# Altium footprint library DDS1.PcbLib: 136 footprints (part 4 of 9)
Each footprint in its own frame and in the unit in brackets; x right, y up, seen from the top. Pads: shape width x height; smd on the part's side, far side on the other; paste and mask are expansions set on the pad; w line width, h text height; cw(c..) or ccw(c..) is an arc to the next point about the centre after c.
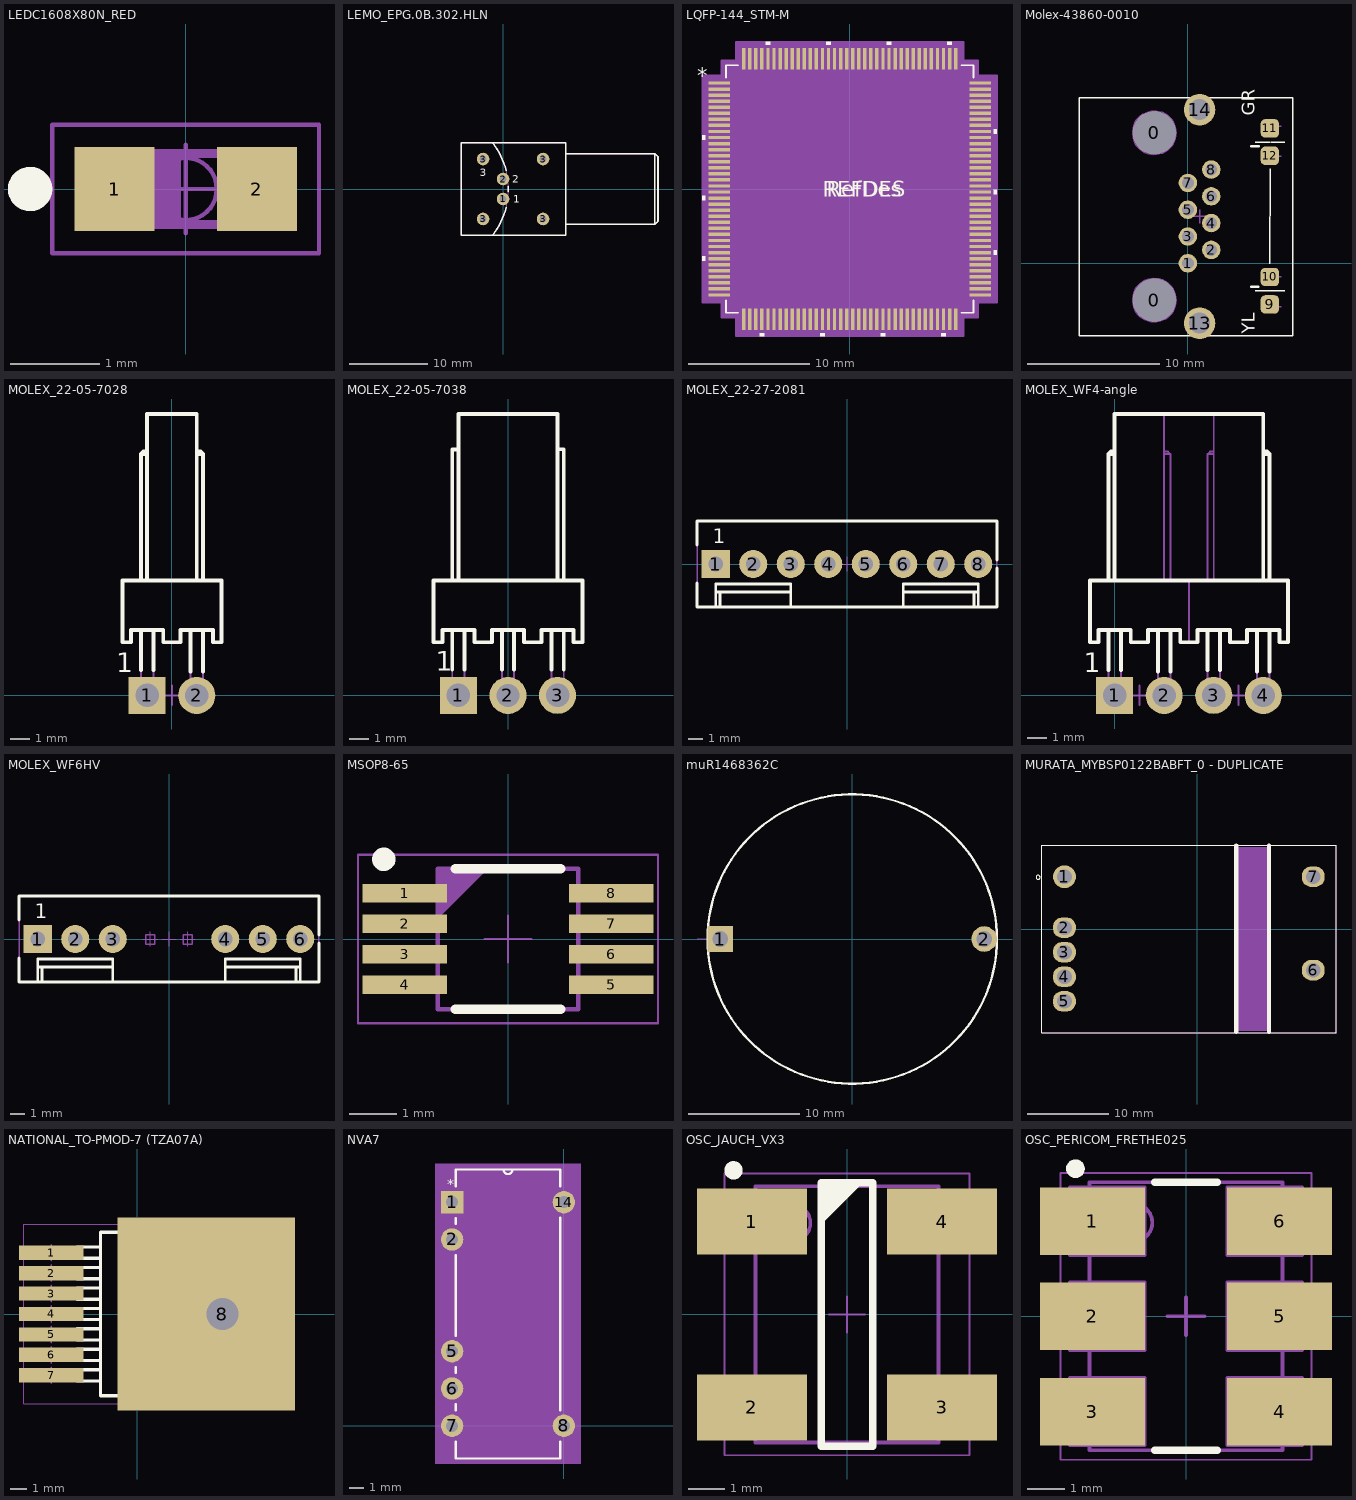
[diagram p3: the footprints below, top view; thin cyan lines are the x and y axes]

## LEDC1608X80N_RED [mm] "Chip RED LED, 2-Leads, Body 1.6x0.8mm, IPC Medium Density"
height 0.8
pads (2):
  rect 0.9x0.95 smd: 1(-0.8,0) 2(0.8,0)
Top Overlay:
  circle w0.25: c-1.75,0 r0.125
Mechanical 14:
  lines w0.1: -0.7,-0.4 -0.7,0.4 ; -0.6,-0.4 -0.6,0.4 ; -0.5,-0.4 -0.5,0.4 ; -0.4,-0.4 -0.4,0.4 ; -0.3,-0.4 -0.3,0.4 ; -0.2,-0.4 -0.2,0.4 ; -0.1,-0.4 -0.1,0.4 ; -0.8,-0.4 -0.8,0.4 0.8,0.4 0.8,-0.4 -0.8,-0.4
Mechanical 15:
  circle w0.05: c0,0 r0.35
  lines w0.05: -0.5,0 0.5,0 ; 0,-0.5 0,0.5 ; -1.5,-0.725 -1.5,0.725 1.5,0.725 1.5,-0.725 -1.5,-0.725
3D body "LEDC1608X80N_RED.stp": height 0.8, standoff 0, extent -0.8,-0.4 0.8,0.4

## LEMO_EPG.0B.302.HLN [mm] "Elbow Receptacle (90°) With 2 Female Contacts and Key (G) For PCB"
height 12.7
pads (6):
  round 1.6 hole 0.9: 1(0,-1.27) 2(0,1.27) 3(-2.54,-3.81) 3(-2.54,3.81) 3(5.08,-3.81) 3(5.08,3.81)
Top Overlay:
  lines w0.2: -1.32,-5.85 ccw(c-8.876,0) 0.386,-2.353 ; -1.32,5.85 cw(c-8.876,0) 0.386,2.353 ; 0.674,-0.338 ccw(c-8.876,0) 0.674,0.338 ; 7.98,-4.5 19.28,-4.5 ; 7.98,4.5 19.28,4.5 ; 19.28,-4.5 19.28,4.5 ; 19.28,-4.5 19.68,-4.1 19.68,4.1 19.28,4.5 ; -5.32,-5.85 7.98,-5.85 7.98,5.85 -5.32,5.85 -5.32,-5.85
  text "1" at 1.275,-1.75 h0.97
  text "2" at 1.186,0.787 h0.97
  text "3" at -2.975,1.625 h0.97
Mechanical 14:
  circle w0.1: c-2.54,3.81 r0.4
  circle w0.1: c5.08,3.81 r0.4
  circle w0.1: c5.08,-3.81 r0.4
  circle w0.1: c-2.54,-3.81 r0.4
  circle w0.1: c0,-1.27 r0.4
  circle w0.1: c0,1.27 r0.4
  lines w0.1: -1.32,-5.85 ccw(c-8.876,0) -1.32,5.85 ; 7.98,-4.5 19.28,-4.5 ; 7.98,4.5 19.28,4.5 ; 19.28,-4.5 19.28,4.5 ; 19.28,-4.5 19.68,-4.1 19.68,4.1 19.28,4.5 ; -5.32,-5.85 7.98,-5.85 7.98,5.85 -5.32,5.85 -5.32,-5.85
  text "1" at 1.275,-1.75 h0.97
  text "2" at 1.186,0.787 h0.97
  text "3" at -2.975,1.625 h0.97
3D body "LEMO_EPG.0B.302.HLN.stp": height 12.7, standoff -4, extent -5.32,-5.85 19.68,5.85

## LQFP-144_STM-M [mil]
pads (144):
  rect 70x11 smd paste+0 mask+0: 1(-424,344.49) 2(-424,324.8) 3(-424,305.12) 4(-424,285.43) 5(-424,265.75) 6(-424,246.06) 7(-424,226.38) 8(-424,206.69) 9(-424,187.01) 10(-424,167.32) 11(-424,147.64) 12(-424,127.95) 13(-424,108.27) 14(-424,88.58) 15(-424,68.9) 16(-424,49.21) 17(-424,29.53) 18(-424,9.84) 19(-424,-9.84) 20(-424,-29.53) 21(-424,-49.21) 22(-424,-68.9) 23(-424,-88.58) 24(-424,-108.27) 25(-424,-127.95) 26(-424,-147.64) 27(-424,-167.32) 28(-424,-187.01) 29(-424,-206.69) 30(-424,-226.38) 31(-424,-246.06) 32(-424,-265.75) 33(-424,-285.43) 34(-424,-305.12) 35(-424,-324.8) 36(-424,-344.49) 73(424,-344.49) 74(424,-324.8) 75(424,-305.12) 76(424,-285.43) 77(424,-265.75) 78(424,-246.06) 79(424,-226.38) 80(424,-206.69) 81(424,-187.01) 82(424,-167.32) 83(424,-147.64) 84(424,-127.95) 85(424,-108.27) 86(424,-88.58) 87(424,-68.9) 88(424,-49.21) 89(424,-29.53) 90(424,-9.84) 91(424,9.84) 92(424,29.53) 93(424,49.21) 94(424,68.9) 95(424,88.58) 96(424,108.27) 97(424,127.95) 98(424,147.64) 99(424,167.32) 100(424,187.01) 101(424,206.69) 102(424,226.38) 103(424,246.06) 104(424,265.75) 105(424,285.43) 106(424,305.12) 107(424,324.8) 108(424,344.49)
  rect 11x70 smd paste+0 mask+0: 37(-344.49,-424) 38(-324.8,-424) 39(-305.12,-424) 40(-285.43,-424) 41(-265.75,-424) 42(-246.06,-424) 43(-226.38,-424) 44(-206.69,-424) 45(-187.01,-424) 46(-167.32,-424) 47(-147.64,-424) 48(-127.95,-424) 49(-108.27,-424) 50(-88.58,-424) 51(-68.9,-424) 52(-49.21,-424) 53(-29.53,-424) 54(-9.84,-424) 55(9.84,-424) 56(29.53,-424) 57(49.21,-424) 58(68.9,-424) 59(88.58,-424) 60(108.27,-424) 61(127.95,-424) 62(147.64,-424) 63(167.32,-424) 64(187.01,-424) 65(206.69,-424) 66(226.38,-424) 67(246.06,-424) 68(265.75,-424) 69(285.43,-424) 70(305.12,-424) 71(324.8,-424) 72(344.49,-424) 109(344.49,424) 110(324.8,424) 111(305.12,424) 112(285.43,424) 113(265.75,424) 114(246.06,424) 115(226.38,424) 116(206.69,424) 117(187.01,424) 118(167.32,424) 119(147.64,424) 120(127.95,424) 121(108.27,424) 122(88.58,424) 123(68.9,424) 124(49.21,424) 125(29.53,424) 126(9.84,424) 127(-9.84,424) 128(-29.53,424) 129(-49.21,424) 130(-68.9,424) 131(-88.58,424) 132(-108.27,424) 133(-127.95,424) 134(-147.64,424) 135(-167.32,424) 136(-187.01,424) 137(-206.69,424) 138(-226.38,424) 139(-246.06,424) 140(-265.75,424) 141(-285.43,424) 142(-305.12,424) 143(-324.8,424) 144(-344.49,424)
Top Overlay:
  region: -469,174.82 -479,174.82 -479,159.82 -469,159.82
  region: -469,-22.03 -479,-22.03 -479,-37.03 -469,-37.03
  region: -469,-218.88 -479,-218.88 -479,-233.88 -469,-233.88
  region: -277.93,-469 -292.93,-469 -292.93,-479 -277.93,-479
  region: -81.08,-469 -96.08,-469 -96.08,-479 -81.08,-479
  region: 115.77,-469 100.77,-469 100.77,-479 115.77,-479
  region: 312.62,-469 297.62,-469 297.62,-479 312.62,-479
  region: 469,-199.19 479,-199.19 479,-214.19 469,-214.19
  region: 469,-2.34 479,-2.34 479,-17.34 469,-17.34
  region: 469,194.51 479,194.51 479,179.51 469,179.51
  region: 332.3,469 317.3,469 317.3,479 332.3,479
  region: 135.45,469 120.45,469 120.45,479 135.45,479
  region: -61.4,469 -76.4,469 -76.4,479 -61.4,479
  region: -258.25,469 -273.25,469 -273.25,479 -258.25,479
  lines w6: -402.5,-363.09 -402.5,-402.5 -363.09,-402.5 ; -402.5,363.09 -402.5,402.5 -363.09,402.5 ; 363.09,-402.5 402.5,-402.5 402.5,-363.09 ; 363.09,402.5 402.5,402.5 402.5,363.09
  text "*" at -496.5,344.33 h50
  text "RefDes" at -75,-25 h50
  text "REFDES" at -87.5,-25 h50
Mechanical 13:
  drawing of 581 lines, arcs and shapes, not listed
  text "*" at -395,329.33 h50
  text "RefDes2" at -87.5,-25 h50
Mechanical 15:
  region: -369.99,-417.5 -417.5,-417.5 -417.5,-369.99 -479,-369.99 -479,369.99 -417.5,369.99 -417.5,417.5 -369.99,417.5 -369.99,479 369.99,479 369.99,417.5 417.5,417.5 417.5,369.99 479,369.99 479,-369.99 417.5,-369.99 417.5,-417.5 369.99,-417.5 369.99,-479 -369.99,-479
  lines w6: -479,-369.99 -417.5,-369.99 -417.5,-417.5 -369.99,-417.5 -369.99,-479 369.99,-479 369.99,-417.5 417.5,-417.5 417.5,-369.99 479,-369.99 479,369.99 417.5,369.99 417.5,417.5 369.99,417.5 369.99,479 -369.99,479 -369.99,417.5 -417.5,417.5 -417.5,369.99 -479,369.99 -479,-369.99
3D body "LQFP-144_STM.step": height 63.11, standoff 0, extent -437.01,-437.01 437.01,437.01

## Molex-43860-0010 [mm] "1 Port, 8 Positions, CAT5 RJ45 Modular Connector With Yellow And Green LEDs"
height 13.46
pads (16):
  round 3.25 hole 3.25 unplated: 0(-2.54,-2.794) 0(-2.54,9.906)
  round 1.4 hole 0.9: 1(0,0) 2(1.778,1.016) 3(0,2.032) 4(1.778,3.048) 5(0,4.064) 6(1.778,5.08) 7(0,6.096) 8(1.778,7.112)
  rrect50% 1.4x1.4 smd: 9(6.223,-3.124) 10(6.223,-1.041) 11(6.223,10.236) 12(6.223,8.153)
  round 2.4 hole 1.6: 13(0.889,-4.547) 14(0.889,11.659)
Top Overlay:
  lines w0.1: 5.121,-2.083 6.223,-2.083 7.346,-2.083 ; 5.121,9.195 6.223,9.195 ; 6.21,-0.031 6.26,7.181 ; 6.287,9.195 7.346,9.195 ; -8.224,-5.499 -8.224,12.562 7.943,12.562 7.943,-5.499 -8.224,-5.499
  lines w0.2: 4.826,-1.778 5.351,-1.778 ; 4.826,8.89 5.376,8.89
  text "YL" at 5.08,-5.334 h1
  text "GR" at 5.08,11.176 h1
Mechanical 8:
  circle w0.1: c0,6.096 r0.45
  circle w0.1: c0,4.064 r0.45
  circle w0.1: c0,2.032 r0.45
  circle w0.1: c0,0 r0.45
  circle w0.1: c1.78,1.016 r0.45
  circle w0.1: c1.78,3.048 r0.45
  circle w0.1: c1.78,5.08 r0.45
  circle w0.1: c1.78,7.112 r0.45
  circle w0.1: c0.89,-4.578 r0.8
  circle w0.1: c0.89,11.682 r0.8
  circle w0.1: c-2.54,-2.798 r1.65
  circle w0.1: c-2.54,9.902 r1.65
  lines w0.1: -3.04,-2.798 -2.54,-2.798 ; -3.04,9.902 -2.54,9.902 ; -2.54,-3.298 -2.54,-2.798 ; -2.54,-2.298 -2.54,-2.798 ; -2.54,9.402 -2.54,9.902 ; -2.54,10.402 -2.54,9.902 ; -2.04,-2.798 -2.54,-2.798 ; -2.04,9.902 -2.54,9.902 ; -0.5,0 0,0 ; -0.5,2.032 0,2.032 ; -0.5,4.064 0,4.064 ; -0.5,6.096 0,6.096 ; 0,-0.5 0,0 ; 0,0.5 0,0 ; 0,1.532 0,2.032 ; 0,2.532 0,2.032 ; 0,3.564 0,4.064 ; 0,4.564 0,4.064 ; 0,5.596 0,6.096 ; 0,6.596 0,6.096 ; 0.386,3.554 0.886,3.554 ; 0.39,-4.578 0.89,-4.578 ; 0.39,11.682 0.89,11.682 ; 0.5,0 0,0 ; 0.5,2.032 0,2.032 ; 0.5,4.064 0,4.064 ; 0.5,6.096 0,6.096 ; 0.886,3.054 0.886,3.554 ; 0.886,4.054 0.886,3.554 ; 0.89,-5.078 0.89,-4.578 ; 0.89,-4.078 0.89,-4.578 ; 0.89,11.182 0.89,11.682 ; 0.89,12.182 0.89,11.682 ; 1.28,1.016 1.78,1.016 ; 1.28,3.048 1.78,3.048 ; 1.28,5.08 1.78,5.08 ; 1.28,7.112 1.78,7.112 ; 1.386,3.554 0.886,3.554 ; 1.39,-4.578 0.89,-4.578 ; 1.39,11.682 0.89,11.682 ; 1.78,0.516 1.78,1.016 ; 1.78,1.516 1.78,1.016 ; 1.78,2.548 1.78,3.048 ; 1.78,3.548 1.78,3.048 ; 1.78,4.58 1.78,5.08 ; 1.78,5.58 1.78,5.08 ; 1.78,6.612 1.78,7.112 ; 1.78,7.612 1.78,7.112 ; 2.28,1.016 1.78,1.016 ; 2.28,3.048 1.78,3.048 ; 2.28,5.08 1.78,5.08 ; 2.28,7.112 1.78,7.112 ; 6.1,-3.308 6.6,-3.308 ; 6.1,-1.018 6.6,-1.018 ; 6.1,8.122 6.6,8.122 ; 6.1,10.412 6.6,10.412 ; 6.6,-3.808 6.6,-3.308 ; 6.6,-2.808 6.6,-3.308 ; 6.6,-1.518 6.6,-1.018 ; 6.6,-0.518 6.6,-1.018 ; 6.6,7.622 6.6,8.122 ; 6.6,8.622 6.6,8.122 ; 6.6,9.912 6.6,10.412 ; 6.6,10.912 6.6,10.412 ; 7.1,-3.308 6.6,-3.308 ; 7.1,-1.018 6.6,-1.018 ; 7.1,8.122 6.6,8.122 ; 7.1,10.412 6.6,10.412
Mechanical 13:
  pour cut-out: 2.032,17.018
3D body "438600010.stp": height 2.75, standoff -15.07, extent -8.224,-5.499 7.943,12.562

## MOLEX_22-05-7028 [mm] "2.54mm (.100\") Pitch KK® Wire-To-Board Header, Right Angle, With Friction Lock, 2 Circuits"
height 5.8
pads (2):
  rect 1.9x1.9 hole 1.2: 1(-1.27,0.002)
  round 1.9 hole 1.2: 2(1.27,-0.002)
Top Overlay:
  lines w0.2: -1.587,1.302 -1.587,3.357 ; -1.587,5.897 -1.587,12.37 ; -1.27,5.897 -1.27,14.422 1.27,14.422 1.27,5.897 ; -1.27,12.37 -1.587,12.37 ; -1.27,12.497 -1.46,12.497 -1.587,12.37 ; -0.953,1.302 -0.953,3.357 ; 0.953,1.212 0.953,3.357 ; 1.27,12.37 1.587,12.37 ; 1.27,12.497 1.46,12.497 1.587,12.37 ; 1.587,1.212 1.587,3.357 ; 1.587,5.897 1.587,12.37 ; -2.54,2.722 -2.54,5.897 2.54,5.897 2.54,2.722 2.095,2.722 2.095,3.357 0.445,3.357 0.445,2.722 -0.445,2.722 -0.445,3.357 -2.095,3.357 -2.095,2.722 -2.54,2.722
  text "1" at -2.842,1.195 h1
Mechanical 8:
  lines w0.1: -1.77,0 -1.27,0 ; -1.27,-0.5 -1.27,0 ; -1.27,0.5 -1.27,0 ; -0.77,0 -1.27,0 ; -0.5,0 0,0 ; 0,-0.5 0,0 ; 0,0.5 0,0 ; 0.5,0 0,0 ; 0.77,0 1.27,0 ; 1.27,-0.5 1.27,0 ; 1.27,0.5 1.27,0 ; 1.77,0 1.27,0
Mechanical 14:
  lines w0.1: -1.587,3.355 -1.587,-0.318 -0.953,-0.318 -0.953,3.355 ; -1.587,5.895 -1.587,12.368 ; -1.27,5.895 -1.27,14.42 1.27,14.42 1.27,5.895 ; -1.27,12.368 -1.587,12.368 ; -1.27,12.495 -1.46,12.495 -1.587,12.368 ; 0.953,3.355 0.953,-0.318 1.587,-0.318 1.587,3.355 ; 1.27,12.368 1.587,12.368 ; 1.27,12.495 1.46,12.495 1.587,12.368 ; 1.587,5.895 1.587,12.368 ; -2.54,2.72 -2.095,2.72 -2.095,3.355 -0.445,3.355 -0.445,2.72 0.445,2.72 0.445,3.355 2.095,3.355 2.095,2.72 2.54,2.72 2.54,5.895 -2.54,5.895 -2.54,2.72
  text "1" at -2.842,1.195 h1
3D body "MOLEX_22-05-7028.stp": height 5.84, standoff -3.8, extent -2.54,-0.317 2.54,14.42

## MOLEX_22-05-7038 [mm] "2.54mm (.100\") Pitch KK® Wire-To-Board Header, Right Angle, With Friction Lock, 3 Circuits"
height 5.8
pads (3):
  rect 1.9x1.9 hole 1.2: 1(-2.54,0)
  round 1.9 hole 1.2: 2(0,-0.005) 3(2.54,0)
Top Overlay:
  lines w0.2: -2.858,1.312 -2.858,3.355 ; -2.858,5.895 -2.858,12.605 -2.54,12.605 ; -2.54,5.895 -2.54,14.42 2.54,14.42 2.54,5.895 ; -2.222,1.312 -2.222,3.355 ; -0.318,1.312 -0.318,3.355 ; 0.318,1.312 0.318,3.355 ; 2.222,1.312 2.222,3.355 ; 2.54,12.634 2.858,12.605 2.858,5.895 ; 2.858,1.312 2.858,3.355 ; -3.81,2.72 -3.81,5.895 ; -3.81,2.72 -3.366,2.72 -3.366,3.355 -1.714,3.355 -1.714,2.72 -0.826,2.72 -0.826,3.355 0.826,3.355 0.826,2.72 1.714,2.72 1.714,3.355 3.366,3.355 3.366,2.72 3.81,2.72 3.81,5.895 -3.81,5.895 ; -3.81,2.72 -3.81,5.895
  text "1" at -3.712,1.268 h1
Mechanical 8:
  lines w0.1: -3.04,0 -2.54,0 ; -2.54,-0.5 -2.54,0 ; -2.54,0.5 -2.54,0 ; -2.04,0 -2.54,0 ; -0.5,0 0,0 ; 0,-0.5 0,0 ; 0,0.5 0,0 ; 0.5,0 0,0 ; 2.04,0 2.54,0 ; 2.54,-0.5 2.54,0 ; 2.54,0.5 2.54,0 ; 3.04,0 2.54,0
Mechanical 14:
  lines w0.1: -2.858,3.355 -2.858,-0.318 -2.222,-0.318 -2.222,3.355 ; -2.858,5.895 -2.858,12.605 -2.54,12.605 ; -2.54,5.895 -2.54,14.42 2.54,14.42 2.54,5.895 ; -0.318,3.355 -0.318,-0.318 0.318,-0.318 0.318,3.355 ; 2.222,3.355 2.222,-0.318 2.858,-0.318 2.858,3.355 ; 2.54,12.634 2.858,12.605 2.858,5.895 ; -3.81,2.72 -3.81,5.895 ; -3.81,2.72 -3.366,2.72 -3.366,3.355 -1.714,3.355 -1.714,2.72 -0.826,2.72 -0.826,3.355 0.826,3.355 0.826,2.72 1.714,2.72 1.714,3.355 3.366,3.355 3.366,2.72 3.81,2.72 3.81,5.895 -3.81,5.895 ; -3.81,2.72 -3.81,5.895
  text "1" at -3.712,1.268 h1
3D body "MOLEX_22-05-7038.stp": height 5.84, standoff -3.8, extent -3.81,-0.317 3.81,14.42

## MOLEX_22-27-2081 [mm] "2.54mm (.100\") Pitch KK® Header, Single Row, Vertical, 8 Circuits"
height 11.7
pads (8):
  rect 1.9x1.9 hole 1: 1(-8.89,0)
  round 1.9 hole 1: 2(-6.35,0) 3(-3.81,0) 4(-1.27,0) 5(1.27,0) 6(3.81,0) 7(6.35,0) 8(8.89,0)
Top Overlay:
  lines w0.2: -10.16,-1.3 -10.16,-2.9 10.16,-2.9 10.16,-0.278 ; -10.16,1.3 -10.16,2.9 10.16,2.9 10.16,0.278 ; -8.89,-2.9 -8.89,-1.37 -3.81,-1.37 -3.81,-2.9 ; -8.89,-1.9 -3.81,-1.9 ; -8.617,-2.9 -8.617,-1.9 ; 3.81,-2.9 3.81,-1.37 8.89,-1.37 8.89,-2.9 ; 3.81,-1.9 8.89,-1.9 ; 8.617,-2.9 8.617,-1.9
  text "1" at -9.11,1.395 h1
Mechanical 8:
  lines w0.05: -9.39,0 -8.89,0 ; -8.89,-0.5 -8.89,0 ; -8.89,0.5 -8.89,0 ; -8.39,0 -8.89,0 ; -6.85,0 -6.35,0 ; -6.35,-0.5 -6.35,0 ; -6.35,0.5 -6.35,0 ; -5.85,0 -6.35,0 ; -4.31,0 -3.81,0 ; -3.81,-0.5 -3.81,0 ; -3.81,0.5 -3.81,0 ; -3.31,0 -3.81,0 ; -1.77,0 -1.27,0 ; -1.27,-0.5 -1.27,0 ; -1.27,0.5 -1.27,0 ; -0.77,0 -1.27,0 ; -0.5,0 0,0 ; 0,-0.5 0,0 ; 0,0.5 0,0 ; 0.5,0 0,0 ; 0.77,0 1.27,0 ; 1.27,-0.5 1.27,0 ; 1.27,0.5 1.27,0 ; 1.77,0 1.27,0 ; 3.31,0 3.81,0 ; 3.81,-0.5 3.81,0 ; 3.81,0.5 3.81,0 ; 4.31,0 3.81,0 ; 5.85,0 6.35,0 ; 6.35,-0.5 6.35,0 ; 6.35,0.5 6.35,0 ; 6.85,0 6.35,0 ; 8.39,0 8.89,0 ; 8.89,-0.5 8.89,0 ; 8.89,0.5 8.89,0 ; 9.39,0 8.89,0
Mechanical 14:
  lines w0.1: -8.89,-2.9 -8.89,-1.37 -3.81,-1.37 -3.81,-2.9 ; -8.89,-1.9 -3.81,-1.9 ; -8.617,-2.9 -8.617,-1.9 ; 3.81,-2.9 3.81,-1.37 8.89,-1.37 8.89,-2.9 ; 3.81,-1.9 8.89,-1.9 ; 8.617,-2.9 8.617,-1.9 ; -10.16,-2.9 10.16,-2.9 10.16,2.9 -10.16,2.9 -10.16,-2.9 ; -9.21,-0.34 -9.21,0.3 -8.57,0.3 -8.57,-0.34 -9.21,-0.34 ; -6.67,-0.34 -6.03,-0.34 -6.03,0.3 -6.67,0.3 -6.67,-0.34 ; -4.13,-0.34 -4.13,0.3 -3.49,0.3 -3.49,-0.34 -4.13,-0.34 ; -1.59,-0.34 -1.59,0.3 -0.95,0.3 -0.95,-0.34 -1.59,-0.34 ; 0.95,-0.34 1.59,-0.34 1.59,0.3 0.95,0.3 0.95,-0.34 ; 3.49,-0.34 4.13,-0.34 4.13,0.3 3.49,0.3 3.49,-0.34 ; 6.03,-0.34 6.67,-0.34 6.67,0.3 6.03,0.3 6.03,-0.34 ; 8.57,-0.34 9.21,-0.34 9.21,0.3 8.57,0.3 8.57,-0.34
  text "1" at -9.11,1.395 h1
3D body "MOLEX_22-27-2081.stp": height 11.7, standoff -3.56, extent -10.16,-2.9 10.16,2.9

## MOLEX_WF4-angle [mm] "2.54mm (.100\") Pitch KK® Wire-To-Board Header, Right Angle, With Friction Lock, 2 Circuits"
height 5.8
pads (4):
  rect 1.9x1.9 hole 1.2: 1(0,0)
  round 1.9 hole 1.2: 2(2.54,-0.005) 3(5.08,0) 4(7.62,-0.005)
Top Overlay:
  lines w0.2: -0.318,1.3 -0.318,3.355 ; -0.318,5.895 -0.318,12.368 ; 0,5.895 0,14.42 5.08,14.42 7.62,14.42 7.62,5.895 ; 0,12.368 -0.318,12.368 ; 0,12.495 -0.191,12.495 -0.318,12.368 ; 0.318,1.3 0.318,3.355 ; 2.222,1.209 2.222,3.355 ; 2.857,1.209 2.857,3.355 ; 4.763,1.3 4.763,3.355 ; 5.397,1.3 5.397,3.355 ; 7.302,1.209 7.302,3.355 ; 7.62,12.368 7.938,12.368 ; 7.62,12.495 7.81,12.495 7.938,12.368 ; 7.938,1.209 7.938,3.355 ; 7.938,5.895 7.938,12.368 ; -1.27,2.72 -0.826,2.72 -0.826,3.355 0.826,3.355 0.826,2.72 1.714,2.72 1.714,3.355 3.365,3.355 3.365,2.72 3.81,2.72 4.255,2.72 4.255,3.355 5.905,3.355 5.905,2.72 6.794,2.72 6.794,3.355 8.445,3.355 8.445,2.72 8.89,2.72 8.89,5.895 3.81,5.895 -1.27,5.895 -1.27,2.72
  text "1" at -1.572,1.193 h1
Mechanical 8:
  lines w0.1: -0.5,-0.002 0,-0.002 ; 0,-0.502 0,-0.002 ; 0,0.498 0,-0.002 ; 0.5,-0.002 0,-0.002 ; 0.77,-0.002 1.27,-0.002 ; 1.27,-0.503 1.27,-0.002 ; 1.27,0.498 1.27,-0.002 ; 1.77,-0.002 1.27,-0.002 ; 2.04,-0.002 2.54,-0.002 ; 2.54,-0.503 2.54,-0.002 ; 2.54,0.497 2.54,-0.002 ; 3.04,-0.002 2.54,-0.002 ; 4.58,-0.002 5.08,-0.002 ; 5.08,-0.502 5.08,-0.002 ; 5.08,0.498 5.08,-0.002 ; 5.58,-0.002 5.08,-0.002 ; 5.85,-0.002 6.35,-0.002 ; 6.35,-0.503 6.35,-0.002 ; 6.35,0.498 6.35,-0.002 ; 6.85,-0.002 6.35,-0.002 ; 7.12,-0.002 7.62,-0.002 ; 7.62,-0.503 7.62,-0.002 ; 7.62,0.497 7.62,-0.002 ; 8.12,-0.002 7.62,-0.002
Mechanical 14:
  lines w0.1: -0.318,3.353 -0.318,-0.32 0.318,-0.32 0.318,3.353 ; -0.318,5.893 -0.318,12.366 ; 0,5.893 0,14.418 2.54,14.418 2.54,5.893 ; 0,12.366 -0.318,12.366 ; 0,12.493 -0.191,12.493 -0.318,12.366 ; 2.222,3.353 2.222,-0.32 2.857,-0.32 2.857,3.353 ; 2.54,12.366 2.857,12.366 ; 2.54,12.493 2.73,12.493 2.857,12.366 ; 2.857,5.893 2.857,12.366 ; 4.763,3.353 4.763,-0.32 5.397,-0.32 5.397,3.353 ; 4.763,5.893 4.763,12.366 ; 5.08,5.893 5.08,14.418 7.62,14.418 7.62,5.893 ; 5.08,12.366 4.763,12.366 ; 5.08,12.493 4.889,12.493 4.763,12.366 ; 7.302,3.353 7.302,-0.32 7.938,-0.32 7.938,3.353 ; 7.62,12.366 7.938,12.366 ; 7.62,12.493 7.81,12.493 7.938,12.366 ; 7.938,5.893 7.938,12.366 ; 3.81,2.718 3.81,5.893 ; 3.81,2.718 3.365,2.718 3.365,3.353 1.714,3.353 1.714,2.718 0.826,2.718 0.826,3.353 -0.826,3.353 -0.826,2.718 -1.27,2.718 -1.27,5.893 3.81,5.893 ; 3.81,2.718 4.255,2.718 4.255,3.353 5.905,3.353 5.905,2.718 6.794,2.718 6.794,3.353 8.445,3.353 8.445,2.718 8.89,2.718 8.89,5.893 3.81,5.893 ; 3.81,2.718 3.81,5.893
  text "1" at -1.572,1.193 h1
3D body "MOLEX_22-05-7028.stp": height 5.84, standoff -3.8, extent 1.27,-0.32 6.35,14.418
3D body "MOLEX_22-05-7028.stp": height 5.84, standoff -3.8, extent 3.81,-0.32 8.89,14.418
3D body "MOLEX_22-05-7028.stp": height 5.84, standoff -3.8, extent -1.27,-0.32 3.81,14.418

## MOLEX_WF6HV [mm] "2.54mm (.100\") Pitch KK® Header, Single Row, Vertical, 8 Circuits"
height 11.7
pads (6):
  rect 1.9x1.9 hole 1: 1(-8.89,0)
  round 1.9 hole 1: 2(-6.35,0) 3(-3.81,0) 4(3.81,0) 5(6.35,0) 6(8.89,0)
Top Overlay:
  lines w0.2: -10.16,-1.3 -10.16,-2.9 10.16,-2.9 10.16,-0.278 ; -10.16,1.3 -10.16,2.9 10.16,2.9 10.16,0.278 ; -8.89,-2.9 -8.89,-1.37 -3.81,-1.37 -3.81,-2.9 ; -8.89,-1.9 -3.81,-1.9 ; -8.617,-2.9 -8.617,-1.9 ; 3.81,-2.9 3.81,-1.37 8.89,-1.37 8.89,-2.9 ; 3.81,-1.9 8.89,-1.9 ; 8.617,-2.9 8.617,-1.9
  text "1" at -9.11,1.395 h1
Mechanical 8:
  lines w0.05: -9.39,0 -8.89,0 ; -8.89,-0.5 -8.89,0 ; -8.89,0.5 -8.89,0 ; -8.39,0 -8.89,0 ; -6.85,0 -6.35,0 ; -6.35,-0.5 -6.35,0 ; -6.35,0.5 -6.35,0 ; -5.85,0 -6.35,0 ; -4.31,0 -3.81,0 ; -3.81,-0.5 -3.81,0 ; -3.81,0.5 -3.81,0 ; -3.31,0 -3.81,0 ; -1.77,0 -1.27,0 ; -1.27,-0.5 -1.27,0 ; -1.27,0.5 -1.27,0 ; -0.77,0 -1.27,0 ; -0.5,0 0,0 ; 0,-0.5 0,0 ; 0,0.5 0,0 ; 0.5,0 0,0 ; 0.77,0 1.27,0 ; 1.27,-0.5 1.27,0 ; 1.27,0.5 1.27,0 ; 1.77,0 1.27,0 ; 3.31,0 3.81,0 ; 3.81,-0.5 3.81,0 ; 3.81,0.5 3.81,0 ; 4.31,0 3.81,0 ; 5.85,0 6.35,0 ; 6.35,-0.5 6.35,0 ; 6.35,0.5 6.35,0 ; 6.85,0 6.35,0 ; 8.39,0 8.89,0 ; 8.89,-0.5 8.89,0 ; 8.89,0.5 8.89,0 ; 9.39,0 8.89,0
Mechanical 14:
  lines w0.1: -8.89,-2.9 -8.89,-1.37 -3.81,-1.37 -3.81,-2.9 ; -8.89,-1.9 -3.81,-1.9 ; -8.617,-2.9 -8.617,-1.9 ; 3.81,-2.9 3.81,-1.37 8.89,-1.37 8.89,-2.9 ; 3.81,-1.9 8.89,-1.9 ; 8.617,-2.9 8.617,-1.9 ; -10.16,-2.9 10.16,-2.9 10.16,2.9 -10.16,2.9 -10.16,-2.9 ; -9.21,-0.34 -9.21,0.3 -8.57,0.3 -8.57,-0.34 -9.21,-0.34 ; -6.67,-0.34 -6.03,-0.34 -6.03,0.3 -6.67,0.3 -6.67,-0.34 ; -4.13,-0.34 -4.13,0.3 -3.49,0.3 -3.49,-0.34 -4.13,-0.34 ; -1.59,-0.34 -1.59,0.3 -0.95,0.3 -0.95,-0.34 -1.59,-0.34 ; 0.95,-0.34 1.59,-0.34 1.59,0.3 0.95,0.3 0.95,-0.34 ; 3.49,-0.34 4.13,-0.34 4.13,0.3 3.49,0.3 3.49,-0.34 ; 6.03,-0.34 6.67,-0.34 6.67,0.3 6.03,0.3 6.03,-0.34 ; 8.57,-0.34 9.21,-0.34 9.21,0.3 8.57,0.3 8.57,-0.34
  text "1" at -9.11,1.395 h1
3D body "MOLEX_22-27-2081.stp": height 11.7, standoff -3.56, extent -10.16,-2.9 10.16,2.9

## MSOP8-65 [mm] "SOP, 8-Leads, Body 3x3mm (max), Pitch 0.65mm, IPC Medium Density"
height 1.1
pads (8):
  rect 1.8x0.4 smd: 1(-2.2,0.975) 2(-2.2,0.325) 3(-2.2,-0.325) 4(-2.2,-0.975) 5(2.2,-0.975) 6(2.2,-0.325) 7(2.2,0.325) 8(2.2,0.975)
Top Overlay:
  circle w0.25: c-2.65,1.7 r0.125
  lines w0.2: -1.125,-1.5 1.125,-1.5 ; -1.125,1.5 1.125,1.5
Mechanical 14:
  lines w0.1: -1.5,0.5 -0.5,1.5 ; -1.5,0.6 -0.6,1.5 ; -1.5,0.7 -0.7,1.5 ; -1.5,0.8 -0.8,1.5 ; -1.5,0.9 -0.9,1.5 ; -1.5,1 -1,1.5 ; -1.5,1.1 -1.1,1.5 ; -1.5,1.2 -1.2,1.5 ; -1.5,1.3 -1.3,1.5 ; -1.5,1.4 -1.4,1.5 ; -1.5,-1.5 -1.5,1.5 1.5,1.5 1.5,-1.5 -1.5,-1.5
Mechanical 15:
  lines w0.05: -0.5,0 0.5,0 ; 0,-0.5 0,0.5 ; -3.2,-1.8 3.2,-1.8 3.2,1.8 -3.2,1.8 -3.2,-1.8
3D body "SOP65P488X110-8N.stp": height 1.1, standoff 0, extent -2.45,-1.55 2.45,1.55

## muR1468362C [mm] "Capacitor, Radial, Pin spacing 5.0mm - Body Diameter 10.0mm X Body Height 12.5mm"
height 12.5
pads (2):
  rect 2.3x2.3 hole 1.4: 1(-11.85,0)
  round 2.3 hole 1.4: 2(11.85,0)
Top Overlay:
  circle w0.2: c0,0 r13
Mechanical 14:
  lines w0.1: -13.95,0 -12.95,0
3D body: height 14, standoff 0, extent -12.202,-12.198 12.198,12.196

## MURATA_MYBSP0122BABFT_0 - DUPLICATE [mm]
height 3.31
pads (7):
  round 2.8 / inner rrect91% 2.8x2.2 / far side rrect91% 2.8x2.2 hole 1.8: 1(-16.27,6.42)
  rrect91% 2.8x2.5 hole 1.8: 2(-16.27,0.18) 3(-16.27,-2.82) 4(-16.27,-5.82) 5(-16.27,-8.82) 6(14.17,-5.01) 7(14.17,6.42)
Top Overlay:
  circle w0: c-19.5,6.345 r0.25
  lines w0.15: -19.05,-12.65 -19.05,10.25 16.95,10.25 16.95,-12.65 -19.05,-12.65
  lines w0.5: 4.75,-12.55 4.75,10.25 ; 8.775,-12.55 8.775,10.25
Mechanical 14:
  lines w0.15: -19.05,-12.65 -19.05,10.25 16.95,10.25 16.95,-12.65 -19.05,-12.65
Mechanical 16:
  region: 8.7,-12.4 4.7,-12.4 4.7,10 8.7,10
3D body "step_temp.STEP": height 11.15, standoff 0, extent -18.766,-12.343 16.734,10.057

## NATIONAL_TO-PMOD-7 (TZA07A) [mm] "TO-PMOD 7 Pin Package, NATIONAL Package TZA07A, 1.70mm pitch; 9.85mm L X 10.16mm W X 4.67mm H body"
height 4.67
pads (8):
  rect 4x0.89 smd: 1(-5.339,3.81) 2(-5.339,2.54) 3(-5.339,1.27) 4(-5.339,0) 5(-5.339,-1.27) 6(-5.339,-2.54) 7(-5.339,-3.81)
  rect 11x12 hole 2 copper offset -1,0: 8(5.291,0)
Top Overlay:
  lines w0.2: -3.734,-4.16 -2.279,-4.16 ; -3.734,-3.46 -2.279,-3.46 ; -3.734,-2.89 -2.279,-2.89 ; -3.734,-2.19 -2.279,-2.19 ; -3.734,-1.62 -2.279,-1.62 ; -3.734,-0.92 -2.279,-0.92 ; -3.734,-0.35 -2.279,-0.35 ; -3.734,0.35 -2.279,0.35 ; -3.734,0.92 -2.279,0.92 ; -3.734,1.62 -2.279,1.62 ; -3.734,2.19 -2.279,2.19 ; -3.734,2.89 -2.279,2.89 ; -3.734,3.46 -2.279,3.46 ; -3.734,4.16 -2.279,4.16 ; -2.279,-5.08 7.571,-5.08 7.571,5.08 -2.279,5.08 -2.279,-5.08
Mechanical 8:
  lines w0.1: -5.839,-3.81 -5.339,-3.81 ; -5.839,-2.54 -5.339,-2.54 ; -5.839,-1.27 -5.339,-1.27 ; -5.839,0 -5.339,0 ; -5.839,1.27 -5.339,1.27 ; -5.839,2.54 -5.339,2.54 ; -5.839,3.81 -5.339,3.81 ; -5.339,-4.31 -5.339,-3.81 ; -5.339,-3.31 -5.339,-3.81 ; -5.339,-3.04 -5.339,-2.54 ; -5.339,-2.04 -5.339,-2.54 ; -5.339,-1.77 -5.339,-1.27 ; -5.339,-0.77 -5.339,-1.27 ; -5.339,-0.5 -5.339,0 ; -5.339,0.5 -5.339,0 ; -5.339,0.77 -5.339,1.27 ; -5.339,1.77 -5.339,1.27 ; -5.339,2.04 -5.339,2.54 ; -5.339,3.04 -5.339,2.54 ; -5.339,3.31 -5.339,3.81 ; -5.339,4.31 -5.339,3.81 ; -4.839,-3.81 -5.339,-3.81 ; -4.839,-2.54 -5.339,-2.54 ; -4.839,-1.27 -5.339,-1.27 ; -4.839,0 -5.339,0 ; -4.839,1.27 -5.339,1.27 ; -4.839,2.54 -5.339,2.54 ; -4.839,3.81 -5.339,3.81 ; 1.791,0 2.291,0 ; 2.291,-0.5 2.291,0 ; 2.291,0.5 2.291,0 ; 2.791,0 2.291,0
Mechanical 14:
  lines w0.1: -2.279,-4.16 -6.199,-4.16 -6.199,-3.46 -2.279,-3.46 ; -2.279,-2.89 -6.199,-2.89 -6.199,-2.19 -2.279,-2.19 ; -2.279,-1.62 -6.199,-1.62 -6.199,-0.92 -2.279,-0.92 ; -2.279,-0.35 -6.199,-0.35 -6.199,0.35 -2.279,0.35 ; -2.279,0.92 -6.199,0.92 -6.199,1.62 -2.279,1.62 ; -2.279,2.19 -6.199,2.19 -6.199,2.89 -2.279,2.89 ; -2.279,3.46 -6.199,3.46 -6.199,4.16 -2.279,4.16 ; -2.279,-5.08 7.571,-5.08 7.571,5.08 -2.279,5.08 -2.279,-5.08
Mechanical 15:
  lines w0.05: -0.5,0 0,0 ; 0,-0.5 0,0 ; 0,0.5 0,0 ; 0.5,0 0,0 ; -7.044,-5.58 8.071,-5.58 8.071,5.58 -7.044,5.58 -7.044,-5.58
3D body "NATIONAL_TO-PMOD-7 (TZA07A).stp": height 4.77, standoff 0, extent -6.199,-5.08 7.571,5.08

## NVA7 [mil]
pads (7):
  rect 60x60 hole 32: 1(-300,600)
  round 60 hole 32: 2(-300,500) 5(-300,200) 6(-300,100) 7(-300,0) 8(0,0) 14(0,600)
Top Overlay:
  lines w6: -290,-41.92 -290,-87.5 -10,-87.5 -10,-41.92 ; -290,41.92 -290,58.08 ; -290,141.92 -290,158.08 ; -290,241.92 -290,458.08 ; -290,541.92 -290,556.9 ; -290,643.1 -290,687.5 -10,687.5 -10,641.92 ; -162,687.5 ccw(c-150,687.5) -138,687.5 ; -10,41.92 -10,558.08
  text "*" at -312.5,635 h27.56
Mechanical 5:
  region: 45,-102.5 -345,-102.5 -345,702.5 45,702.5
Mechanical 13:
  lines w0: -162,687.5 ccw(c-150,687.5) -138,687.5
  lines w1: -316,-16 -316,16 -290,16 -290,-16 -316,-16 ; -316,84 -316,116 -290,116 -290,84 -316,84 ; -316,184 -316,216 -290,216 -290,184 -316,184 ; -316,284 -316,316 -290,316 -290,284 -316,284 ; -316,384 -316,416 -290,416 -290,384 -316,384 ; -316,484 -316,516 -290,516 -290,484 -316,484 ; -316,584 -316,616 -290,616 -290,584 -316,584 ; -290,-87.5 -10,-87.5 -10,687.5 -290,687.5 -290,-87.5 ; -10,-16 -10,16 16,16 16,-16 -10,-16 ; -10,84 -10,116 16,116 16,84 -10,84 ; -10,184 -10,216 16,216 16,184 -10,184 ; -10,284 -10,316 16,316 16,284 -10,284 ; -10,384 -10,416 16,416 16,384 -10,384 ; -10,484 -10,516 16,516 16,484 -10,484 ; -10,584 -10,616 16,616 16,584 -10,584
  text "*" at -312.5,635 h27.56
Mechanical 15:
  region: 40,-97.5 -340,-97.5 -340,697.5 40,697.5
  lines w6: -340,-97.5 40,-97.5 40,697.5 -340,697.5 -340,-97.5
3D body "NVA7.step": height 215.12, standoff -100, extent -305,-87.48 15,687.48

## OSC_JAUCH_VX3 [mm] "SMD Oscillator, Side Convave, 4 pins, 5.00x7.00mm, VX3 Serie"
height 1.75
pads (4):
  rect 3x1.8 smd: 1(-2.6,2.54) 2(-2.6,-2.54) 3(2.6,-2.54) 4(2.6,2.54)
Top Overlay:
  circle w0.25: c-3.1,3.94 r0.125
  lines w0.2: -0.7,2.6 0.3,3.6 ; -0.7,2.8 0.1,3.6 ; -0.7,3 -0.1,3.6 ; -0.7,3.2 -0.3,3.6 ; -0.7,3.4 -0.5,3.6 ; -0.7,-3.6 0.7,-3.6 0.7,3.6 -0.7,3.6 -0.7,-3.6
Mechanical 14:
  circle w0.1: c-1.5,2.5 r0.5
  lines w0.1: -2.5,-3.5 -2.5,3.5 2.5,3.5 2.5,-3.5 -2.5,-3.5
Mechanical 15:
  lines w0.05: -0.5,0 0.5,0 ; 0,-0.5 0,0.5 ; -3.35,-3.85 -3.35,3.85 3.35,3.85 3.35,-3.85 -3.35,-3.85
3D body "OSC_JAUCH_VX3.stp": height 1.75, standoff 0, extent -2.6,-3.6 2.6,3.6

## OSC_PERICOM_FRETHE025 [mm] "SMD Oscillator, side convave, 6 pins, 5.00x7.00mm"
height 1.55
pads (6):
  rect 2.8x1.8 smd: 1(-2.5,2.54) 2(-2.5,0) 3(-2.5,-2.54) 4(2.5,-2.54) 5(2.5,0) 6(2.5,2.54)
Top Overlay:
  circle w0.25: c-2.95,3.94 r0.125
  lines w0.2: -0.832,-3.575 0.832,-3.575 ; -0.832,3.575 0.832,3.575
Mechanical 8:
  lines w0.1: -2.6,-2.54 -2.1,-2.54 ; -2.6,0 -2.1,0 ; -2.6,2.54 -2.1,2.54 ; -2.1,-3.04 -2.1,-2.54 ; -2.1,-2.04 -2.1,-2.54 ; -2.1,-0.5 -2.1,0 ; -2.1,0.5 -2.1,0 ; -2.1,2.04 -2.1,2.54 ; -2.1,3.04 -2.1,2.54 ; -1.6,-2.54 -2.1,-2.54 ; -1.6,0 -2.1,0 ; -1.6,2.54 -2.1,2.54 ; -0.5,0 0,0 ; 0,-0.5 0,0 ; 0,0.5 0,0 ; 0.5,0 0,0 ; 1.6,-2.54 2.1,-2.54 ; 1.6,0 2.1,0 ; 1.6,2.54 2.1,2.54 ; 2.1,-3.04 2.1,-2.54 ; 2.1,-2.04 2.1,-2.54 ; 2.1,-0.5 2.1,0 ; 2.1,0.5 2.1,0 ; 2.1,2.04 2.1,2.54 ; 2.1,3.04 2.1,2.54 ; 2.6,-2.54 2.1,-2.54 ; 2.6,0 2.1,0 ; 2.6,2.54 2.1,2.54 ; -3.1,-3.44 -3.1,-1.64 -1.1,-1.64 -1.1,-3.44 -3.1,-3.44 ; -3.1,-0.9 -3.1,0.9 -1.1,0.9 -1.1,-0.9 -3.1,-0.9 ; -3.1,1.64 -3.1,3.44 -1.1,3.44 -1.1,1.64 -3.1,1.64 ; 1.1,-3.44 1.1,-1.64 3.1,-1.64 3.1,-3.44 1.1,-3.44 ; 1.1,-0.9 1.1,0.9 3.1,0.9 3.1,-0.9 1.1,-0.9 ; 1.1,1.64 1.1,3.44 3.1,3.44 3.1,1.64 1.1,1.64
Mechanical 14:
  circle w0.1: c-1.4,2.5 r0.5
  lines w0.1: -2.575,-3.575 -2.575,3.575 2.575,3.575 2.575,-3.575 -2.575,-3.575
Mechanical 15:
  lines w0.05: -3.35,-3.825 -3.35,3.825 3.35,3.825 3.35,-3.825 -3.35,-3.825
3D body "OSC_PERICOM_FRETHE025.stp": height 1.55, standoff 0, extent -2.575,-3.575 2.575,3.575